# Altium footprint library Connectors.PcbLib: 76 footprints (part 4 of 5)
Each footprint in its own frame and in the unit in brackets; x right, y up, seen from the top. Pads: shape width x height; smd on the part's side, far side on the other; paste and mask are expansions set on the pad; w line width, h text height; cw(c..) or ccw(c..) is an arc to the next point about the centre after c.
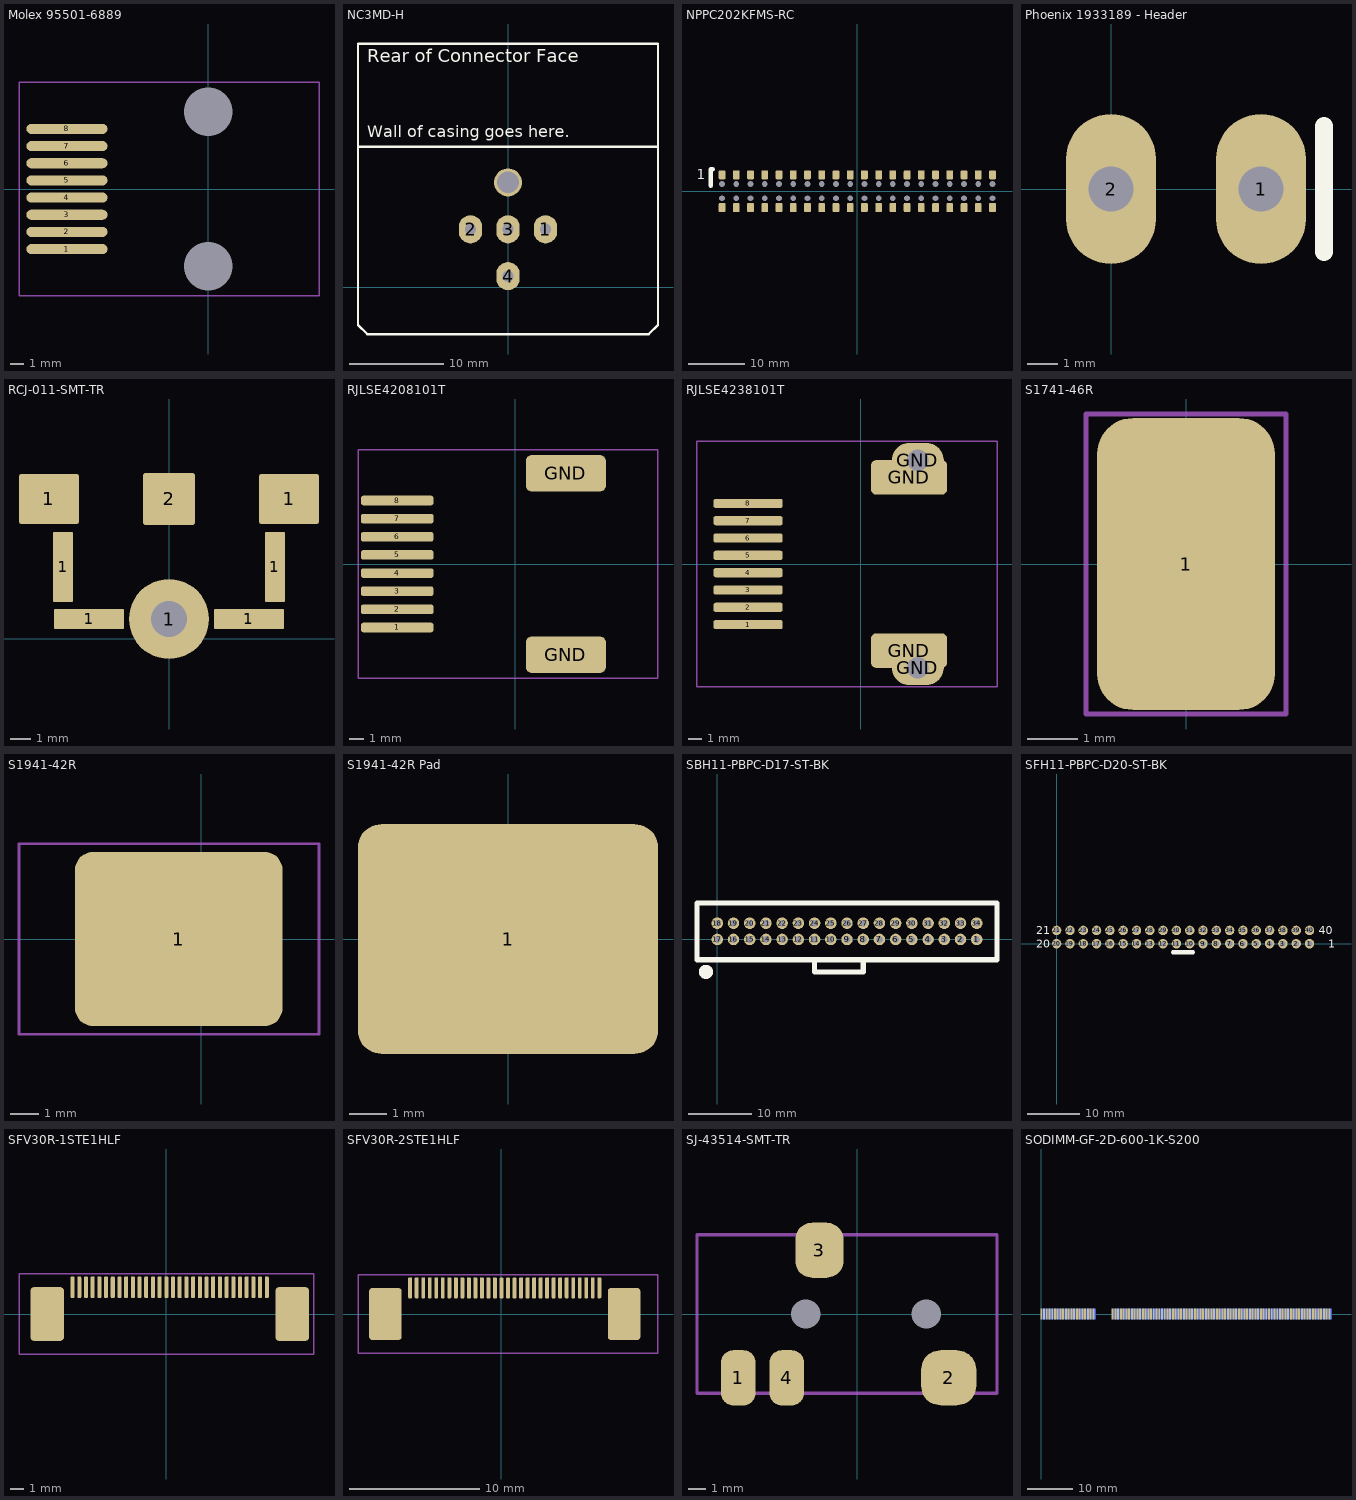
[diagram p3: the footprints below, top view; thin cyan lines are the x and y axes]

## Molex 95501-6889 [mm]
pads (10):
  rrect100% 6x0.76 smd paste-0.08: 1(-10.455,-4.445) 2(-10.455,-3.175) 3(-10.455,-1.905) 4(-10.455,-0.635) 5(-10.455,0.635) 6(-10.455,1.905) 7(-10.455,3.175) 8(-10.455,4.445)
  round 0 hole 3.6 paste-99: GND(0,-5.715) GND(0,5.715)
Assembly:
  lines w0.1: -14,-7.9 -14,7.9 8.2,7.9 8.2,-7.9 -14,-7.9
  text ".Designator" at -6.4,-0.2 h1.1
3D body "955016889.stp": height 11.55, standoff -2.95, extent -12.657,-7.619 7.893,7.621

## NC3MD-H [mm]
pads (5):
  oval 2.5x3 hole 1.2: 1(4,6.2) 2(-4,6.2) 3(0,6.2) 4(0,1.2)
  round 3 hole 2.3: ""(0,11.2)
Top Overlay:
  lines w0.254: -16,15 16,15 ; -16,-4 -15,-5 14,-5 15,-5 16,-4 16,-1 16,26 -16,26 -16,2 -16,-4
  text "Rear of Connector Face" at -15,24 h1.4
  text "Wall of casing goes here." at -15,16 h1.25
3D body "3D+File+NC3MD-H.stp": height 28, standoff -3.5, extent -13,0 13,31.4

## NPPC202KFMS-RC [mm]
pads (80):
  rrect30% 1.2x1.6 smd paste-0.03: 1(-24.13,2.921) 2(-24.13,-2.921) 3(-21.59,2.921) 4(-21.59,-2.921) 5(-19.05,2.921) 6(-19.05,-2.921) 7(-16.51,2.921) 8(-16.51,-2.921) 9(-13.97,2.921) 10(-13.97,-2.921) 11(-11.43,2.921) 12(-11.43,-2.921) 13(-8.89,2.921) 14(-8.89,-2.921) 15(-6.35,-2.921) 16(-6.35,2.921) 17(-3.81,-2.921) 18(-3.81,2.921) 19(-1.27,-2.921) 20(-1.27,2.921) 21(1.27,-2.921) 22(1.27,2.921) 23(3.81,-2.921) 24(3.81,2.921) 25(6.35,-2.921) 26(6.35,2.921) 27(8.89,-2.921) 28(8.89,2.921) 29(11.43,-2.921) 30(11.43,2.921) 31(13.97,-2.921) 32(13.97,2.921) 33(16.51,-2.921) 34(16.51,2.921) 35(19.05,-2.921) 36(19.05,2.921) 37(21.59,-2.921) 38(21.59,2.921) 39(24.13,-2.921) 40(24.13,2.921)
  round 0 hole 1.02 paste-99: ""(-24.13,-1.27) ""(-24.13,1.27) ""(-21.59,-1.27) ""(-21.59,1.27) ""(-19.05,-1.27) ""(-19.05,1.27) ""(-16.51,-1.27) ""(-16.51,1.27) ""(-13.97,-1.27) ""(-13.97,1.27) ""(-11.43,-1.27) ""(-11.43,1.27) ""(-8.89,-1.27) ""(-8.89,1.27) ""(-6.35,-1.27) ""(-6.35,1.27) ""(-3.81,-1.27) ""(-3.81,1.27) ""(-1.27,-1.27) ""(-1.27,1.27) ""(1.27,-1.27) ""(1.27,1.27) ""(3.81,-1.27) ""(3.81,1.27) ""(6.35,-1.27) ""(6.35,1.27) ""(8.89,-1.27) ""(8.89,1.27) ""(11.43,-1.27) ""(11.43,1.27) ""(13.97,-1.27) ""(13.97,1.27) ""(16.51,-1.27) ""(16.51,1.27) ""(19.05,-1.27) ""(19.05,1.27) ""(21.59,-1.27) ""(21.59,1.27) ""(24.13,-1.27) ""(24.13,1.27)
Top Overlay:
  lines w0.8: -26.16,0.93 -26.16,3.93 -25.8,3.93
  text "1" at -28.6,1.5 h3
3D body "_ _ _C202KFMS-RC.STEP": height 7.5, standoff 0, extent -25.65,-3.425 25.65,3.421

## Phoenix 1933189 - Header [mm]
pads (2):
  oval 3x5 hole 1.5 paste-99: 1(5,0) 2(0,0)
Top Overlay:
  lines w0.6: 7.1,-2.1 7.1,2.1
3D body "1934861_04.stp": height 11.39, standoff -0.01, extent -3.07,-3.7 7.5,11.3
3D body "1933189.stp": height 9.52, standoff -3.48, extent -2.5,-1.4 7.5,1.4

## RCJ-011-SMT-TR [mm]
pads (8):
  rrect10% 3x2.5 smd paste-0.025: 1(-6,7) 1(6,7)
  rrect10% 1x3.5 smd paste-0.025: 1(-5.3,3.6) 1(5.3,3.6)
  rrect10% 3.5x1 smd paste-0.025: 1(-4,1) 1(4,1)
  round 4 hole 1.8 paste-99: 1(0,1)
  rrect10% 2.6x2.6 smd paste-0.025: 2(0,7)
Assembly:
  text ".Designator" at -2.4,-2.2 h1.1
3D body "rcj-011-smt.stp": height 12.1, standoff -1.1, extent -7,-7.5 7,7.55

## RJLSE4208101T [mm]
pads (10):
  rrect50% 5.08x0.675 smd paste-0.03: 1(-8.255,-4.445) 2(-8.255,-3.175) 3(-8.255,-1.905) 4(-8.255,-0.635) 5(-8.255,0.635) 6(-8.255,1.905) 7(-8.255,3.175) 8(-8.255,4.445)
  rrect30% 5.588x2.54 smd paste-0.05: GND(3.556,-6.35) GND(3.556,6.35)
Assembly:
  lines w0.1: -11,-8 -11,8 10,8 10,-8 -11,-8
  text ".Designator" at -2.4,-0.2 h1.1
3D body "M-RJLSE-42081-01T-REVT1.STEP": height 11.67, standoff -0.07, extent -9.2,-7.62 9.106,7.62

## RJLSE4238101T [mm]
pads (12):
  rrect50% 5.08x0.675 smd paste-0.03: 1(-8.255,-4.445) 2(-8.255,-3.175) 3(-8.255,-1.905) 4(-8.255,-0.635) 5(-8.255,0.635) 6(-8.255,1.905) 7(-8.255,3.175) 8(-8.255,4.445)
  rrect30% 5.588x2.54 smd paste-0.05: GND(3.556,-6.35) GND(3.556,6.35)
  oval 3.81x2.54 hole 1.575 paste-99: GND(4.191,-7.62) GND(4.191,7.62)
Assembly:
  lines w0.1: -12,-9 -12,9 -10,9 10,9 10,-9 -12,-9
  text ".Designator" at -2.4,-0.2 h1.1
3D body "M-RJLSE-42381-01T-REVT1.STEP": height 11.83, standoff -2.12, extent -9.22,-8.05 9.344,8.05

## S1741-46R [mil] "Spring Contact Land"
pads (1):
  rrect40% 140x230 smd paste-3897.64: 1(-0.01,0)
Top Paste:
  region: -64.59,43.67 -64.59,87.6 -64.59,92.03 -61.2,100.21 -54.94,106.48 -46.75,109.87 -42.32,109.87 42.32,109.87 46.75,109.87 54.94,106.48 61.2,100.21 64.59,92.03 64.59,87.6 64.59,43.67
  region: 64.59,-43.67 64.59,-87.6 64.59,-92.03 61.2,-100.21 54.93,-106.48 46.74,-109.87 42.31,-109.87 -42.33,-109.87 -46.76,-109.87 -54.95,-106.48 -61.21,-100.21 -64.6,-92.03 -64.6,-87.6 -64.6,-43.67
  region: -64.96,-31.5 64.96,-31.5 64.96,31.5 -64.96,31.5
  lines w3.94: -64.96,-31.5 64.96,-31.5 64.96,31.5 -64.96,31.5 -64.96,-31.5 ; -64.6,-87.6 ccw(c-42.33,-87.6) -42.33,-109.87 42.31,-109.87 ccw(c42.31,-87.6) 64.59,-87.6 64.59,-43.67 -64.6,-43.67 -64.6,-87.6 ; -64.59,43.67 -64.59,87.6 cw(c-42.32,87.6) -42.32,109.87 42.32,109.87 cw(c42.32,87.6) 64.59,87.6 64.59,43.67 -64.59,43.67
Assembly:
  lines w3.94: -78.74,-118.11 78.74,-118.11 78.74,118.11 -78.74,118.11 -78.74,-118.11
  text ".Designator" at 7.87,-94.49 h43.31
3D body "s1741-46r.stp": height 96.6, standoff -1.77, extent -61.01,-108.04 61.04,104.56

## S1941-42R [mm] "Spring Contact Land"
pads (1):
  rrect20% 7.4x6.2 smd paste-99: 1(-0.8,0)
Top Paste:
  region: -0.5,-2.4 -0.5,2.4 -0.5,2.499 -0.424,2.683 -0.283,2.824 -0.099,2.9 0,2.9 2.2,2.9 2.299,2.9 2.483,2.824 2.624,2.683 2.7,2.499 2.7,2.4 2.7,-2.4 2.7,-2.499 2.624,-2.683 2.483,-2.824 2.299,-2.9 2.2,-2.9 0,-2.9 -0.099,-2.9 -0.283,-2.824 -0.424,-2.683 -0.5,-2.499
  region: -4.3,-2.4 -4.3,2.4 -4.3,2.499 -4.224,2.683 -4.083,2.824 -3.899,2.9 -3.8,2.9 -1.9,2.9 -1.801,2.9 -1.617,2.824 -1.476,2.683 -1.4,2.499 -1.4,2.4 -1.4,-2.4 -1.4,-2.499 -1.476,-2.683 -1.617,-2.824 -1.801,-2.9 -1.9,-2.9 -3.8,-2.9 -3.899,-2.9 -4.083,-2.824 -4.224,-2.683 -4.3,-2.499
  lines w0.1: -4.3,-2.4 ccw(c-3.8,-2.4) -3.8,-2.9 -1.9,-2.9 ccw(c-1.9,-2.4) -1.4,-2.4 -1.4,2.4 ccw(c-1.9,2.4) -1.9,2.9 -3.8,2.9 ccw(c-3.8,2.4) -4.3,2.4 -4.3,-2.4 ; -0.5,-2.4 ccw(c0,-2.4) 0,-2.9 2.2,-2.9 ccw(c2.2,-2.4) 2.7,-2.4 2.7,2.4 ccw(c2.2,2.4) 2.2,2.9 0,2.9 ccw(c0,2.4) -0.5,2.4 -0.5,-2.4
Assembly:
  lines w0.1: -6.5,-3.4 -6.5,3.4 4.2,3.4 4.2,-3.4 -6.5,-3.4
3D body "s1941-42.stp": height 7.25, standoff 0, extent -6.186,-2.85 3.4,2.85

## S1941-42R Pad [mm] "Spring Contact Land"
pads (1):
  rrect20% 8.1x6.2 smd paste-99: 1(0,0)
Top Paste:
  region: -1.641,1.109 -1.641,2.225 -1.641,2.338 -1.555,2.545 -1.395,2.705 -1.188,2.791 -1.075,2.791 1.075,2.791 1.188,2.791 1.395,2.705 1.555,2.545 1.641,2.338 1.641,2.225 1.641,1.109
  region: 1.64,-1.109 1.64,-2.225 1.64,-2.338 1.554,-2.545 1.395,-2.705 1.187,-2.791 1.075,-2.791 -1.075,-2.791 -1.188,-2.791 -1.396,-2.705 -1.555,-2.545 -1.641,-2.338 -1.641,-2.225 -1.641,-1.109
  region: -1.65,-0.8 1.65,-0.8 1.65,0.8 -1.65,0.8
  lines w0.1: -1.65,-0.8 1.65,-0.8 1.65,0.8 -1.65,0.8 -1.65,-0.8 ; -1.641,-2.225 ccw(c-1.075,-2.225) -1.075,-2.791 1.075,-2.791 ccw(c1.075,-2.225) 1.64,-2.225 1.64,-1.109 -1.641,-1.109 -1.641,-2.225 ; -1.641,1.109 -1.641,2.225 cw(c-1.075,2.225) -1.075,2.791 1.075,2.791 cw(c1.075,2.225) 1.641,2.225 1.641,1.109 -1.641,1.109
Assembly:
  text ".Designator" at 0.2,-2.4 h1.1

## SBH11-PBPC-D17-ST-BK [mm]
pads (34):
  round 1.8 hole 1.05 paste-99: 1(40.64,0) 2(38.1,0) 3(35.56,0) 4(33.02,0) 5(30.48,0) 6(27.94,0) 7(25.4,0) 8(22.86,0) 9(20.32,0) 10(17.78,0) 11(15.24,0) 12(12.7,0) 13(10.16,0) 14(7.62,0) 15(5.08,0) 16(2.54,0) 17(0,0) 18(0,2.54) 19(2.54,2.54) 20(5.08,2.54) 21(7.62,2.54) 22(10.16,2.54) 23(12.7,2.54) 24(15.24,2.54) 25(17.78,2.54) 26(20.32,2.54) 27(22.86,2.54) 28(25.4,2.54) 29(27.94,2.54) 30(30.48,2.54) 31(33.02,2.54) 32(35.56,2.54) 33(38.1,2.54) 34(40.64,2.54)
Top Overlay:
  circle w1.2: c-1.77,-5.08 r0.5
  lines w0.8: 15.24,-3.175 15.24,-5.08 22.86,-5.08 22.86,-3.175 ; -3.175,-3.175 -3.175,5.715 43.815,5.715 43.815,-3.175 -3.175,-3.175
Assembly:
  text ".Designator" at 16.6,0.8 h1.1
3D body: height 9.1, standoff 0, extent -2,-1.905 42.545,4.445
3D body: height 9.1, standoff 0, extent 15.875,-3.175 22.225,-1.27

## SFH11-PBPC-D20-ST-BK [mm]
pads (40):
  round 1.8 hole 1.05 paste-99: 1(48.26,0) 2(45.72,0) 3(43.18,0) 4(40.64,0) 5(38.1,0) 6(35.56,0) 7(33.02,0) 8(30.48,0) 9(27.94,0) 10(25.4,0) 11(22.86,0) 12(20.32,0) 13(17.78,0) 14(15.24,0) 15(12.7,0) 16(10.16,0) 17(7.62,0) 18(5.08,0) 19(2.54,0) 20(0,0) 21(0,2.54) 22(2.54,2.54) 23(5.08,2.54) 24(7.62,2.54) 25(10.16,2.54) 26(12.7,2.54) 27(15.24,2.54) 28(17.78,2.54) 29(20.32,2.54) 30(22.86,2.54) 31(25.4,2.54) 32(27.94,2.54) 33(30.48,2.54) 34(33.02,2.54) 35(35.56,2.54) 36(38.1,2.54) 37(40.64,2.54) 38(43.18,2.54) 39(45.72,2.54) 40(48.26,2.54)
Top Overlay:
  lines w0.8: 22.225,-1.651 26.035,-1.651
  text "1" at 51.816,-0.762 h1.5
  text "20" at -3.937,-0.762 h1.5
  text "21" at -3.937,1.778 h1.5
  text "40" at 50.038,1.778 h1.5
Assembly:
  text ".Designator" at 21.6,0.8 h1.1
3D body: height 8.5, standoff 0, extent 22.225,-2.667 26.035,-1.27
3D body: height 8.5, standoff 0, extent -3.81,-1.651 52.07,4.191

## SFV30R-1STE1HLF [mm]
pads (32):
  rrect50% 0.3x1.6 smd paste-0.04 mask+0.048: 1(-7,2) 2(-6.5,2) 3(-6,2) 4(-5.5,2) 5(-5,2) 6(-4.5,2) 7(-4,2) 8(-3.5,2) 9(-3,2) 10(-2.5,2) 11(-2,2) 12(-1.5,2) 13(-1,2) 14(-0.5,2) 15(0,2) 16(0.5,2) 17(1,2) 18(1.5,2) 19(2,2) 20(2.5,2) 21(3,2) 22(3.5,2) 23(4,2) 24(4.5,2) 25(5,2) 26(5.5,2) 27(6,2) 28(6.5,2) 29(7,2) 30(7.5,2)
  rrect20% 2.5x4 smd paste-0.04 mask+0.048: ""(-8.9,0) ""(9.4,0)
Assembly:
  lines w0.1: -11,-3 -11,3 -10,3 11,3 11,-3 -11,-3
  text ".Designator" at -2.4,-0.2 h1.1
3D body "ssfv30r_1stlf.stp": height 1.85, standoff -0.02, extent -10,-2.5 10.5,2.4

## SFV30R-2STE1HLF [mm]
pads (32):
  rrect50% 0.3x1.6 smd paste-0.04 mask+0.048: 1(-7,2) 2(-6.5,2) 3(-6,2) 4(-5.5,2) 5(-5,2) 6(-4.5,2) 7(-4,2) 8(-3.5,2) 9(-3,2) 10(-2.5,2) 11(-2,2) 12(-1.5,2) 13(-1,2) 14(-0.5,2) 15(0,2) 16(0.5,2) 17(1,2) 18(1.5,2) 19(2,2) 20(2.5,2) 21(3,2) 22(3.5,2) 23(4,2) 24(4.5,2) 25(5,2) 26(5.5,2) 27(6,2) 28(6.5,2) 29(7,2) 30(7.5,2)
  rrect20% 2.5x4 smd paste-0.04 mask+0.048: ""(-8.9,0) ""(9.4,0)
Assembly:
  lines w0.1: -11,-3 12,-3 12,3 -11,3 -11,-3
  text ".Designator" at -2.4,-0.2 h1.1
3D body "ssfv30r_2stlf.stp": height 1.82, standoff -0.05, extent -10,-2.5 10.5,2.4

## SJ-43514-SMT-TR [mm] "3.50mm (0.141\", 1/8\", Mini Plug) - Headphone Phone Jack Stereo (4 Conductor, TRRS) Connector Solder"
pads (6):
  rrect70% 2x3.2 smd paste-0.05: 1(-6.9,-3.7) 4(-4.1,-3.7)
  rrect70% 3.2x3.2 smd paste-0.05: 2(5.3,-3.7)
  rrect70% 2.8x3.2 smd paste-0.05: 3(-2.2,3.7)
  round 0 hole 1.7: 22(-3,0) 22(4,0)
Assembly:
  lines w0.2: -9.3,-4.6 8.1,-4.6 8.1,4.6 -9.3,4.6 -9.3,-4.6
  text ".Designator" at -1.9,-0.2 h1.1
3D body "CUI_DEVICES_SJ-43514-SMT-TR.step": height 5.1, standoff -0.7, extent -9.2,-4.5 8,4.5

## SODIMM-GF-2D-600-1K-S200 [mm] "Golden finger, SODIMM, Dual, Staggered, Pitch 0.6mm, 200-Position"
pads (200):
  rect 0.43x2.3 smd paste-99 mask+0.3: 1(0,0) 3(0.6,0) 5(1.2,0) 7(1.8,0) 9(2.4,0) 11(3,0) 13(3.6,0) 15(4.2,0) 17(4.8,0) 19(5.4,0) 21(6,0) 23(6.6,0) 25(7.2,0) 27(7.8,0) 29(8.4,0) 31(9,0) 33(9.6,0) 35(10.2,0) 37(10.8,0) 39(11.4,0) 41(15.6,0) 43(16.2,0) 45(16.8,0) 47(17.4,0) 49(18,0) 51(18.6,0) 53(19.2,0) 55(19.8,0) 57(20.4,0) 59(21,0) 61(21.6,0) 63(22.2,0) 65(22.8,0) 67(23.4,0) 69(24,0) 71(24.6,0) 73(25.2,0) 75(25.8,0) 77(26.4,0) 79(27,0) 81(27.6,0) 83(28.2,0) 85(28.8,0) 87(29.4,0) 89(30,0) 91(30.6,0) 93(31.2,0) 95(31.8,0) 97(32.4,0) 99(33,0) 101(33.6,0) 103(34.2,0) 105(34.8,0) 107(35.4,0) 109(36,0) 111(36.6,0) 113(37.2,0) 115(37.8,0) 117(38.4,0) 119(39,0) 121(39.6,0) 123(40.2,0) 125(40.8,0) 127(41.4,0) 129(42,0) 131(42.6,0) 133(43.2,0) 135(43.8,0) 137(44.4,0) 139(45,0) 141(45.6,0) 143(46.2,0) 145(46.8,0) 147(47.4,0) 149(48,0) 151(48.6,0) 153(49.2,0) 155(49.8,0) 157(50.4,0) 159(51,0) 161(51.6,0) 163(52.2,0) 165(52.8,0) 167(53.4,0) 169(54,0) 171(54.6,0) 173(55.2,0) 175(55.8,0) 177(56.4,0) 179(57,0) 181(57.6,0) 183(58.2,0) 185(58.8,0) 187(59.4,0) 189(60,0) 191(60.6,0) 193(61.2,0) 195(61.8,0) 197(62.4,0) 199(63,0)
  rect 0.43x2.3 smd far side paste-99 mask+0.3: 2(0.3,0) 4(0.9,0) 6(1.5,0) 8(2.1,0) 10(2.7,0) 12(3.3,0) 14(3.9,0) 16(4.5,0) 18(5.1,0) 20(5.7,0) 22(6.3,0) 24(6.9,0) 26(7.5,0) 28(8.1,0) 30(8.7,0) 32(9.3,0) 34(9.9,0) 36(10.5,0) 38(11.1,0) 40(11.7,0) 42(15.9,0) 44(16.5,0) 46(17.1,0) 48(17.7,0) 50(18.3,0) 52(18.9,0) 54(19.5,0) 56(20.1,0) 58(20.7,0) 60(21.3,0) 62(21.9,0) 64(22.5,0) 66(23.1,0) 68(23.7,0) 70(24.3,0) 72(24.9,0) 74(25.5,0) 76(26.1,0) 78(26.7,0) 80(27.3,0) 82(27.9,0) 84(28.5,0) 86(29.1,0) 88(29.7,0) 90(30.3,0) 92(30.9,0) 94(31.5,0) 96(32.1,0) 98(32.7,0) 100(33.3,0) 102(33.9,0) 104(34.5,0) 106(35.1,0) 108(35.7,0) 110(36.3,0) 112(36.9,0) 114(37.5,0) 116(38.1,0) 118(38.7,0) 120(39.3,0) 122(39.9,0) 124(40.5,0) 126(41.1,0) 128(41.7,0) 130(42.3,0) 132(42.9,0) 134(43.5,0) 136(44.1,0) 138(44.7,0) 140(45.3,0) 142(45.9,0) 144(46.5,0) 146(47.1,0) 148(47.7,0) 150(48.3,0) 152(48.9,0) 154(49.5,0) 156(50.1,0) 158(50.7,0) 160(51.3,0) 162(51.9,0) 164(52.5,0) 166(53.1,0) 168(53.7,0) 170(54.3,0) 172(54.9,0) 174(55.5,0) 176(56.1,0) 178(56.7,0) 180(57.3,0) 182(57.9,0) 184(58.5,0) 186(59.1,0) 188(59.7,0) 190(60.3,0) 192(60.9,0) 194(61.5,0) 196(62.1,0) 198(62.7,0) 200(63.3,0)